# Altium footprint library Flex_SOIC-8-4mm.PcbLib: 1 footprints
Each footprint in its own frame and in the unit in brackets; x right, y up, seen from the top. Pads: shape width x height; smd on the part's side, far side on the other; paste and mask are expansions set on the pad; w line width, h text height; cw(c..) or ccw(c..) is an arc to the next point about the centre after c.
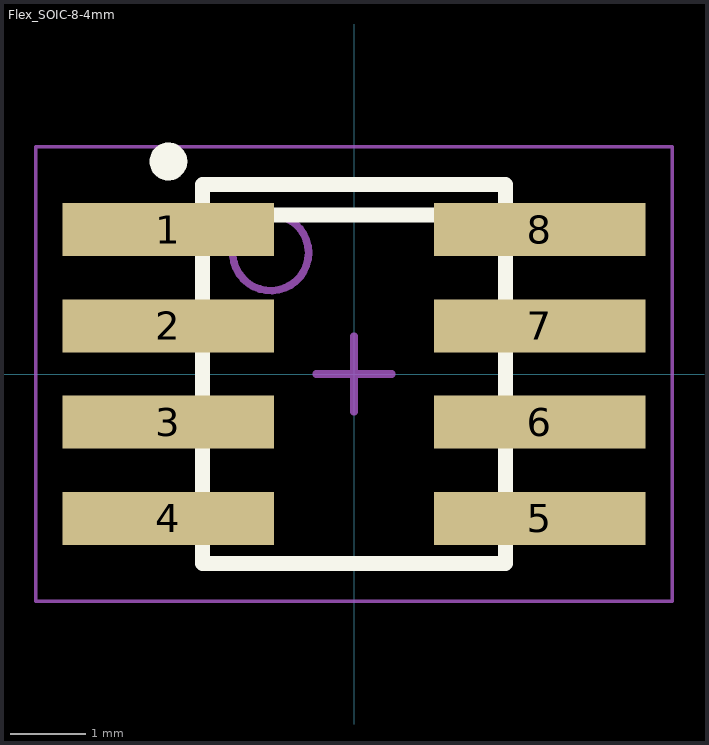
[diagram p0: the footprint, top view; thin cyan lines are the x and y axes]

## Flex_SOIC-8-4mm [mm] "SOIC, 8-Leads, Body 4.9x3.9mm, Pitch 1.27mm, FlexPCB"
height 1.75
pads (8):
  rect 2.794x0.7 smd: 1(-2.45,1.905) 2(-2.45,0.635) 3(-2.45,-0.635) 4(-2.45,-1.905) 5(2.45,-1.905) 6(2.45,-0.635) 7(2.45,0.635) 8(2.45,1.905)
Top Overlay:
  circle w0.25: c-2.45,2.805 r0.125
  lines w0.2: -2,2.1 2,2.1 ; -2,-2.5 2,-2.5 2,2.5 -2,2.5 -2,-2.5
Top Solder:
  region: 1.5,-2.35 1.48,-2.35 1.443,-2.335 1.415,-2.307 1.4,-2.27 1.4,-2.25 1.4,2.25 1.4,2.27 1.415,2.307 1.443,2.335 1.48,2.35 1.5,2.35 3.4,2.35 3.42,2.35 3.457,2.335 3.485,2.307 3.5,2.27 3.5,2.25 3.5,-2.25 3.5,-2.27 3.485,-2.307 3.457,-2.335 3.42,-2.35 3.4,-2.35
  region: -3.4,-2.35 -3.42,-2.35 -3.457,-2.335 -3.485,-2.307 -3.5,-2.27 -3.5,-2.25 -3.5,2.25 -3.5,2.27 -3.485,2.307 -3.457,2.335 -3.42,2.35 -3.4,2.35 -1.5,2.35 -1.48,2.35 -1.443,2.335 -1.415,2.307 -1.4,2.27 -1.4,2.25 -1.4,-2.25 -1.4,-2.27 -1.415,-2.307 -1.443,-2.335 -1.48,-2.35 -1.5,-2.35
Mechanical 13:
  circle w0.1: c-1.1,1.6 r0.5
  lines w0.1: -2,-2.5 2,-2.5 2,2.5 -2,2.5 -2,-2.5
Mechanical 15:
  lines w0.05: -4.2,-3 4.2,-3 4.2,3 -4.2,3 -4.2,-3
  lines w0.1: -0.5,0 0.5,0 ; 0,-0.5 0,0.5
3D body: height 1.75, standoff 0.1, extent -2,-2.5 2,2.5